# Altium schematic symbol library LD39050PUR.SchLib: 2 symbols
Pins are listed as number, name and electrical type; pins without a type are passive.

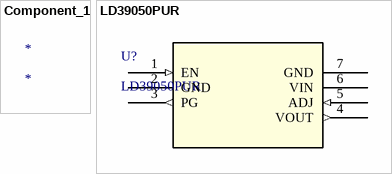
[diagram p0: symbols Component_1 to LD39050PUR]

## Component_1
designator *

## LD39050PUR
designator U?
No Description Available; Vendor: STMicroelectronics; Built_By: EMA_Cory; SourceLibrary: STMicroelecctronics_2020-08-17; Datasheet: https://www.st.com/resource/en/datasheet/ld39050.pdf; Manufacturer_Part_Number: LD39050PUR; Copyright: Copyright (C) 2018 Accelerated Designs. All rights reserved; RefDes: RefDes; Type: DEV
footprint DFN6_3X3_STM
pins: 1 EN (in), 2 GND, 3 PG (out), 4 VOUT (out), 5 ADJ (in), 6 VIN (power), 7 GND